# EAGLE library part M08RIGHT (library HW2LIBRARY)
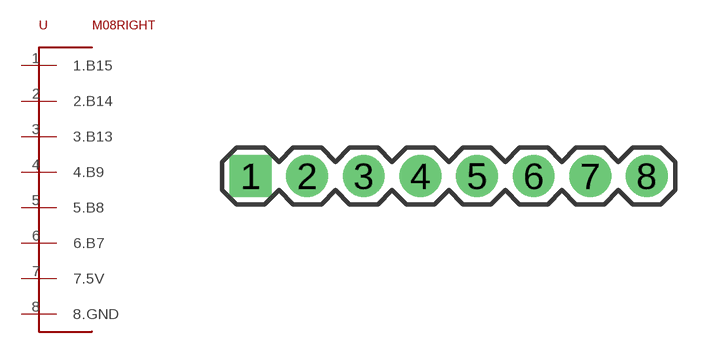
[diagram p14: symbol with the pads of 1X08; footprint 1X08]

Designator prefix -

## M08RIGHT  [1X08]
1  1.B15
2  2.B14
3  3.B13
4  4.B9
5  5.B8
6  6.B7
7  7.5V
8  8.GND

## Footprint 1X08 (pad centres in mm)
drill 1.016 pad 1.88 square: 1 0,0
drill 1.016 pad 1.88: 2 2.54,0; 3 5.08,0; 4 7.62,0; 5 10.16,0; 6 12.7,0; 7 15.24,0; 8 17.78,0